# Altium schematic symbol library MCU_NXP_HCS12.SchLib: 1 symbol
Pins are listed as number, name and electrical type; pins without a type are passive.

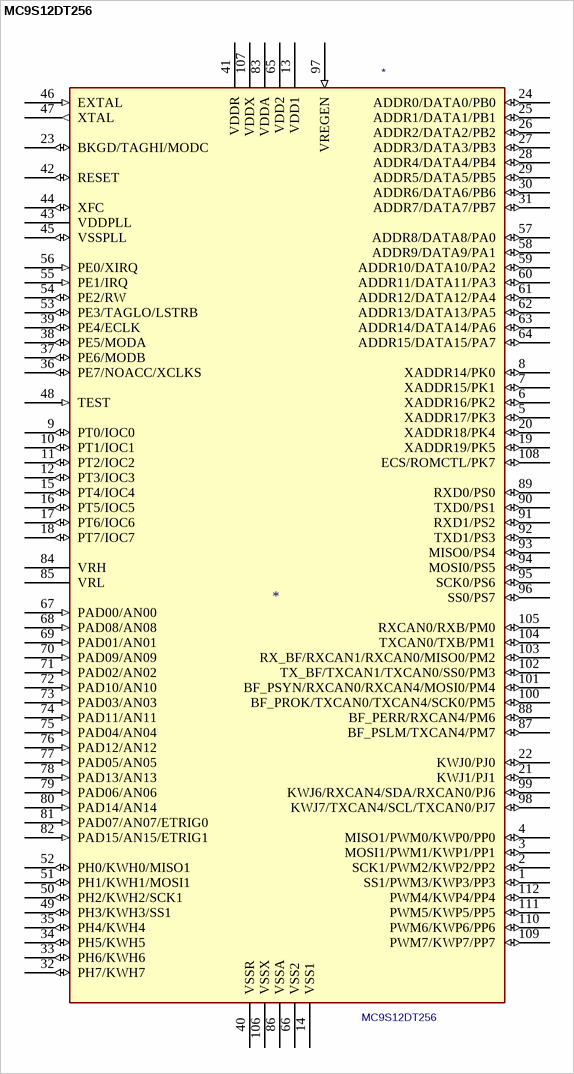
[diagram p0: symbol MC9S12DT256]

## MC9S12DT256
designator *  value MC9S12DT256
ki_keywords: HCS12 MCU; ki_description: HCS12 Microcontroller; Supplier: https://www.nxp.com/docs/en/fact-sheet/MC9S12DT256FS.pdf
pins: 1 SS1/PWM3/KWP3/PP3 (io), 2 SCK1/PWM2/KWP2/PP2 (io), 3 MOSI1/PWM1/KWP1/PP1 (io), 4 MISO1/PWM0/KWP0/PP0 (io), 5 XADDR17/PK3 (io), 6 XADDR16/PK2 (io), 7 XADDR15/PK1 (io), 8 XADDR14/PK0 (io), 9 PT0/IOC0 (io), 10 PT1/IOC1 (io), 11 PT2/IOC2 (io), 12 PT3/IOC3 (io), 13 VDD1 (power), 14 VSS1 (power), 15 PT4/IOC4 (io), 16 PT5/IOC5 (io), 17 PT6/IOC6 (io), 18 PT7/IOC7 (io), 19 XADDR19/PK5 (io), 20 XADDR18/PK4 (io), 21 KWJ1/PJ1 (io), 22 KWJ0/PJ0 (io), 23 BKGD/TAGHI/MODC (io), 24 ADDR0/DATA0/PB0 (io), 25 ADDR1/DATA1/PB1 (io), 26 ADDR2/DATA2/PB2 (io), 27 ADDR3/DATA3/PB3 (io), 28 ADDR4/DATA4/PB4 (io), 29 ADDR5/DATA5/PB5 (io), 30 ADDR6/DATA6/PB6 (io), 31 ADDR7/DATA7/PB7 (io), 32 PH7/KWH7 (io), 33 PH6/KWH6 (io), 34 PH5/KWH5 (io), 35 PH4/KWH4 (io), 36 PE7/NOACC/XCLKS (io), 37 PE6/MODB (io), 38 PE5/MODA (io), 39 PE4/ECLK (io), 40 VSSR (power), 41 VDDR (power), 42 RESET (io), 43 VDDPLL (power), 44 XFC (io), 45 VSSPLL (io), 46 EXTAL (in), 47 XTAL (out), 48 TEST (in), 49 PH3/KWH3/SS1 (io), 50 PH2/KWH2/SCK1 (io), 51 PH1/KWH1/MOSI1 (io), 52 PH0/KWH0/MISO1 (io), 53 PE3/TAGLO/LSTRB (io), 54 PE2/RW (io), 55 PE1/IRQ (in), 56 PE0/XIRQ (in), 57 ADDR8/DATA8/PA0 (io), 58 ADDR9/DATA9/PA1 (io), 59 ADDR10/DATA10/PA2 (io), 60 ADDR11/DATA11/PA3 (io), 61 ADDR12/DATA12/PA4 (io), 62 ADDR13/DATA13/PA5 (io), 63 ADDR14/DATA14/PA6 (io), 64 ADDR15/DATA15/PA7 (io), 65 VDD2 (power), 66 VSS2 (power), 67 PAD00/AN00 (in), 68 PAD08/AN08 (in), 69 PAD01/AN01 (in), 70 PAD09/AN09 (in), 71 PAD02/AN02 (in), 72 PAD10/AN10 (in), 73 PAD03/AN03 (in), 74 PAD11/AN11 (in), 75 PAD04/AN04 (in), 76 PAD12/AN12 (in), 77 PAD05/AN05 (in), 78 PAD13/AN13 (in), 79 PAD06/AN06 (in), 80 PAD14/AN14 (in), 81 PAD07/AN07/ETRIG0 (in), 82 PAD15/AN15/ETRIG1 (in), 83 VDDA (power), 84 VRH, 85 VRL, 86 VSSA (power), 87 BF_PSLM/TXCAN4/PM7 (io), 88 BF_PERR/RXCAN4/PM6 (io), 89 RXD0/PS0 (io), 90 TXD0/PS1 (io), 91 RXD1/PS2 (io), 92 TXD1/PS3 (io), 93 MISO0/PS4 (io), 94 MOSI0/PS5 (io), 95 SCK0/PS6 (io), 96 SS0/PS7 (io), 97 VREGEN (in), 98 KWJ7/TXCAN4/SCL/TXCAN0/PJ7 (io), 99 KWJ6/RXCAN4/SDA/RXCAN0/PJ6 (io), 100 BF_PROK/TXCAN0/TXCAN4/SCK0/PM5 (io), 101 BF_PSYN/RXCAN0/RXCAN4/MOSI0/PM4 (io), 102 TX_BF/TXCAN1/TXCAN0/SS0/PM3 (io), 103 RX_BF/RXCAN1/RXCAN0/MISO0/PM2 (io), 104 TXCAN0/TXB/PM1 (io), 105 RXCAN0/RXB/PM0 (io), 106 VSSX (power), 107 VDDX (power), 108 ECS/ROMCTL/PK7 (io), 109 PWM7/KWP7/PP7 (io), 110 PWM6/KWP6/PP6 (io), 111 PWM5/KWP5/PP5 (io), 112 PWM4/KWP4/PP4 (io)